# Altium schematic symbol library INA125PA.SchLib: 1 symbol
Pins are listed as number, name and electrical type; pins without a type are passive.

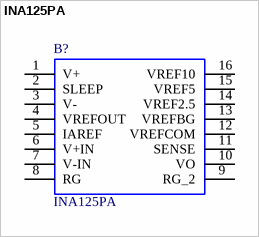
[diagram p0: symbol INA125PA]

## INA125PA
designator B?
Instrumentation Amplifier with Precision Voltage Reference; Manufacturer_Name: Texas Instruments; RS Part Number: 2521593P; Manufacturer_Part_Number: INA125PA; Datasheet Link: http://uk.rs-online.com/web/p/products/2521593P
footprint DIP254P762X508-16
pins: 1 V+, 2 SLEEP, 3 V-, 4 VREFOUT, 5 IAREF, 6 V+IN, 7 V-IN, 8 RG, 9 RG_2, 10 VO, 11 SENSE, 12 VREFCOM, 13 VREFBG, 14 VREF2.5, 15 VREF5, 16 VREF10